# Altium schematic symbol library Other.SchLib: 28 symbols
Pins are listed as number, name and electrical type; pins without a type are passive.

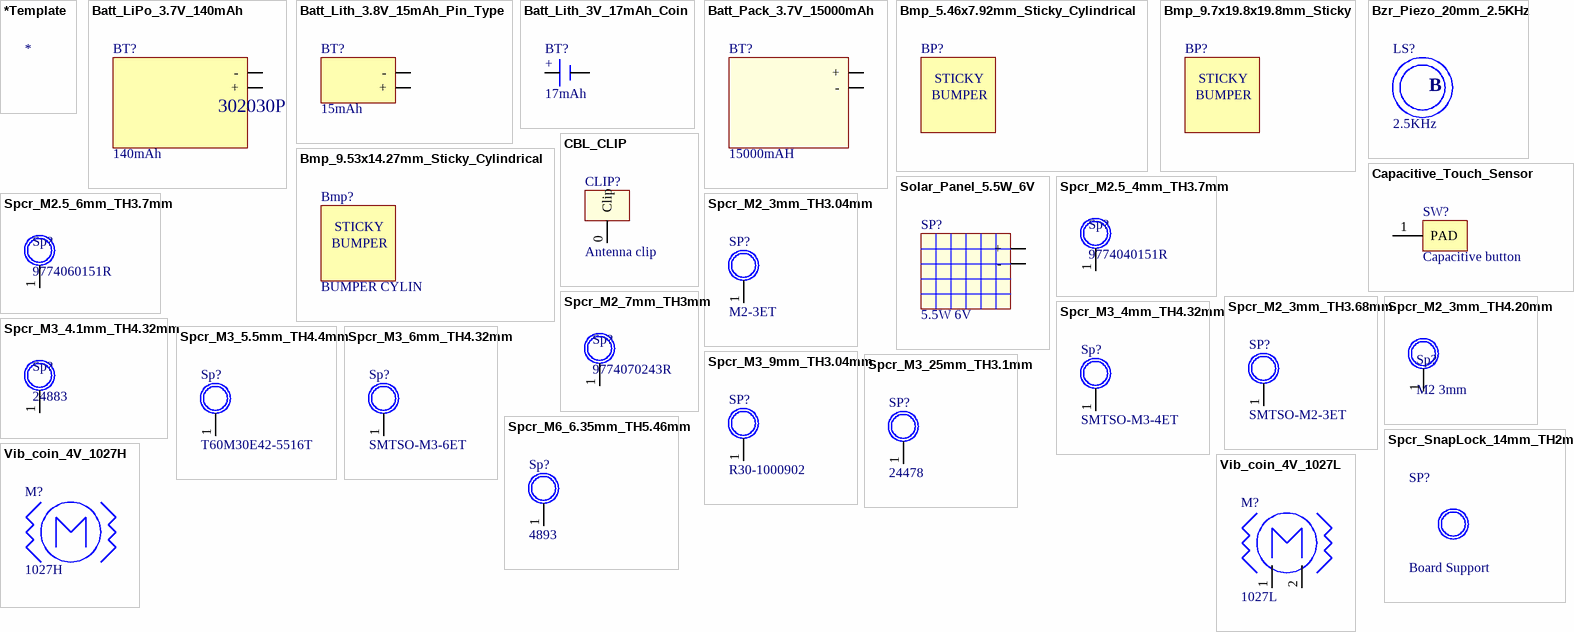
[diagram p0: symbols *Template to Vib_coin_4V_1027L]

## *Template
designator *
Reel Stock: N/A; Last modified by: J.Jaramillo; Last modified date: 20240310

## Batt_LiPo_3.7V_140mAh
designator BT?, comment 140mAh  (mechanical)
BATTERY LITHIUM 3.7V 140MAH; Manufacturer: Dongguan Miyea Electronic Co; Manufacturer Part Number: 302030P140; Supplier 1: Poshton; Supplier Part Number 1: 302030P140; Reel Stock: N/A; Last modified by: J.Jaramillo; Last modified date: 20240310
pins: 1 -, 2 +

## Batt_Lith_3.8V_15mAh_Pin_Type
designator BT?, comment 15mAh
PIN TYPE LITHIUM ION; Manufacturer: PANASONIC ELECTRONIC COMPONENTS; Manufacturer Part Number: CG-320A; Supplier 1: PANASONIC ELECTRONIC COMPONENTS; Supplier Part Number 1: CG-320A; Reel Stock: N/A; Last modified by: J.Jaramillo; Last modified date: 20240310; ComponentLink1Description: Panasonic Industrial; ComponentLink1URL: https://na.industrial.panasonic.com/products/batteries/rechargeable-batteries/lineup/pin-type-lithium-ion/series/90810/model/90811
footprint BAT_LITH_3.8V_CG-320A_PIN_TYPE (20220103 / A-F.Romo)
pins: 1 -, 2 +

## Batt_Lith_3V_17mAh_Coin
designator BT?, comment 17mAh
BATT LITH 3V 17MAH COIN 12.5MM; Manufacturer: Panasonic - BSG; Manufacturer Part Number: ML-1220/F1AN; Supplier 1: Digi-Key; Supplier Part Number 1: P295-ND; Reel Stock: N/A; Last modified by: J.Jaramillo; Last modified date: 20240310; ComponentLink1Description: Digi-Key; ComponentLink1URL: https://www.digikey.com/en/products/detail/panasonic-bsg/ML-1220-F1AN/447504?s=N4IgTCBcDaIApgJwFYC0A5AIiAugXyA
footprint BAT_LITH_3V_ML1220-F1A_COIN (/20200714/N-A.Potosi)
pins: 1 +, 2 -

## Batt_Pack_3.7V_15000mAh
designator BT?, comment 15000mAH  (mechanical)
BATTERY PACK 3.7V 15000mAH; Manufacturer: Samsung; Manufacturer Part Number: 21700-1S3P; Supplier 1: QueenBattery; Supplier Part Number 1: 21700-1S3P; Reel Stock: N/A; Last modified by: J.Jaramillo; Last modified date: 20240310; ComponentLink1Description: QueenBattery; ComponentLink1URL: http://queenbattery.com.cn/our-products/664-1s3p-samsung-21700-50e-37v-15ah-battery-pack-with-pcb-2a-5a-with-jst-connector.html
pins: 1 +, 2 -

## Bmp_5.46x7.92mm_Sticky_Cylindrical
designator BP?, comment BUMPER CYLINDRICAL  (value not drawn)
BUMPER CYLIN 0.312" DIA BLK; Manufacturer: 3M; Manufacturer Part Number: SJ61A6; Supplier 1: Digi-Key; Supplier Part Number 1: SJ61A6-ND; Reel Stock: N/A; Last modified by: J.Jaramillo; Last modified date: 20240310; ComponentLink1Description: Digi-Key; ComponentLink1URL: https://www.digikey.com/product-detail/en/3m/SJ61A6/SJ61A6-ND/1768454
footprint BMP_5.46x7.92mm_Sticky_Cylindrical (Adhesive, Rubber/ 20190301 / N-A.Potosi)
text: STICKY; BUMPER

## Bmp_9.7x19.8x19.8mm_Sticky
designator BP?, comment BUMPER SQUARE  (value not drawn)
BUMPER .78" SQUARE X .38" BLK; Manufacturer: Bumper Specialties Inc.; Manufacturer Part Number: BS04BL01X01AP; Supplier 1: Digi-Key; Supplier Part Number 1: 2042-1012-ND; Reel Stock: N/A; Last modified by: J.Jaramillo; Last modified date: 20240310; ComponentLink1Description: Digi-Key; ComponentLink1URL: https://www.digikey.com/product-detail/en/bumper-specialties-inc/BS04BL01X01AP/2042-1012-ND/9759791
footprint BMP_9.7x19.8x19.8mm_Sticky (Adhesive, Rubber / 20190301 / N-A.Potosi)
text: STICKY; BUMPER

## Bmp_9.53x14.27mm_Sticky_Cylindrical
designator Bmp?, comment BUMPER CYLIN
BUMPER CYLIN 0.562" DIA BLACK; Manufacturer: Keystone Electronics; Manufacturer Part Number: 727; Supplier 1: Digi-Key; Supplier Part Number 1: 36-727-ND; Reel Stock: N/A; Last modified by: J.Jaramillo; Last modified date: 20240310; ComponentLink1Description: Digi-Key; ComponentLink1URL: https://www.digikey.com/en/products/detail/keystone-electronics/727/61969
footprint BMP_9.53x14.27MM_STICKY_CYLINDRICAL (20221012 /  E.Naranjo)
text: STICKY; BUMPER

## Bzr_Piezo_20mm_2.5KHz
designator LS?, comment 2.5KHz  (mechanical)
PIEZO CERAMIC BENDER 20MM 2.5KHZ; Manufacturer: PUI Audio, Inc.; Manufacturer Part Number: AB2025B-LW100-R; Supplier 1: Digi-key; Supplier Part Number 1: 668-1403-ND; Reel Stock: N/A; Last modified by: J.Jaramillo; Last modified date: 20240310; ComponentLink1Description: Digi-Key; ComponentLink1URL: https://www.digikey.com/en/products/detail/pui-audio-inc/AB2025B-LW100-R/4147327?s=N4IgTCBcDaIGxwBwFoCMAWADAZmQOQBEQBdAXyA
text: B

## Capacitive_Touch_Sensor
designator SW?, comment Capacitive button
Capacitive touch sensor; Reel Stock: N/A; Last modified by: J.Jaramillo; Last modified date: 20240310
footprint CAPACITIVE-TOUCH-SENSOR (20220429 / E.Naranjo)
pins: 1 PAD

## CBL_CLIP
designator CLIP?, comment Antenna clip
CBL CLIP C-TYPE SILVER SOLDER; Manufacturer: Harwin Inc.; Manufacturer Part Number: S8101-46R; Supplier 1: Digi-Key; Supplier Part Number 1: 952-1576-1-ND; Reel Stock: N/A; Last modified by: J.Jaramillo; Last modified date: 20240310; ComponentLink1Description: Digi-Key; ComponentLink1URL: https://www.digikey.com/products/en?keywords=952-1576-1-ND
footprint Cbl_clip (/20200406/V-A.Patino)
pins: 0 Clip

## Solar_Panel_5.5W_6V
designator SP?, comment 5.5W 6V  (mechanical)
5.5 WATT 6 VOLT SOLAR PANEL - ET; Manufacturer: Voltaic Systems; Manufacturer Part Number: 5.5W-MB; Supplier 1: Voltaic; Supplier Part Number 1: 5.5W-MB; Reel Stock: N/A; Last modified by: J.Jaramillo; Last modified date: 20240310; ComponentLink1Description: Voltaic; ComponentLink1URL: https://voltaicsystems.com/5-5-watt-panel-etfe/
pins: 1 +, 2 -

## Spcr_M2.5_4mm_TH3.7mm
designator Sp?, comment 9774040151R
RND STANDOFF M2.5X0.45 STEEL 4MM; Manufacturer: Würth Elektronik; Manufacturer Part Number: 9774040151R; Supplier 1: Digi-Key; Supplier Part Number 1: 732-7089-1-ND; Reel Stock: N/A; Last modified by: J.Jaramillo; Last modified date: 20230220; ComponentLink1Description: Digi-Key; ComponentLink1URL: https://www.digikey.com/en/products/detail/würth-elektronik/9774040151R/5320632
footprint Spcr_M2.5_4mm_TH3.7mm (/20230220/N-A.Potosi)
pins: 1

## Spcr_M2.5_6mm_TH3.7mm
designator Sp?, comment 9774060151R
RND STANDOFF M2.5X0.45 STEEL 6MM; Manufacturer: Würth Elektronik; Manufacturer Part Number: 9774060151R; Supplier 1: Digi-Key; Supplier Part Number 1: 732-7102-1-ND; Reel Stock: N/A; Last modified by: J.Jaramillo; Last modified date: 20240310; ComponentLink1Description: Digi-Key; ComponentLink1URL: https://www.digikey.com/en/products/detail/würth-elektronik/9774060151R/5320645?s=N4IgTCBcDaIJwHYEBYAMA2VBGArFgSiALoC%2BQA
footprint Spcr_M2.5_6mm_TH3.7mm (/20230220/N-A.Potosi)
pins: 1

## Spcr_M2_3mm_TH3.04mm
designator SP?, comment M2-3ET
ROUND STANDOFF M2X0.4 STEEL 3MM; Manufacturer: Würth Elektronik; Manufacturer Part Number: 9774030243R; Supplier 1: Digikey; Supplier Part Number 1: 732-7085-1-ND; Reel Stock: N/A; Last modified by: J.Jaramillo; Last modified date: 20240310; ComponentLink1Description: Digikey; ComponentLink1URL: https://www.digikey.com/en/products/detail/w%C3%BCrth-elektronik/9774030243R/5320628
footprint Spcr_M2_3mm_TH3.04mm (/20210420/J-E.Pachon)
pins: 1

## Spcr_M2_3mm_TH3.68mm
designator SP?, comment SMTSO-M2-3ET
Mounting Hardware SURFACE MOUNT STANDOFF; Manufacturer: PEM; Manufacturer Part Number: SMTSO-M2-3ET; Supplier 1: Mouser; Supplier Part Number 1: 153-SMTSO-M2-3ET; Reel Stock: N/A; Last modified by: J.Jaramillo; Last modified date: 20240310; ComponentLink1Description: Digikey; ComponentLink1URL: https://co.mouser.com/ProductDetail/PEM/SMTSO-M2-3ET/?qs=%2Fha2pyFadugIHl%2FPnX1C5Zv6tJQACq7p5t%2Fkxi6z9cdrCkbMojATyA%3D%3D
footprint Spcr_M2_3mm_TH3.68mm (/20210224/J-E.Pachon)
pins: 1

## Spcr_M2_3mm_TH4.20mm
designator Sp?, comment M2 3mm
ROUND STANDOFF M2 STEEL 3MM; Manufacturer: U-Tek; Manufacturer Part Number: T56M20E41-3015TP; Supplier 1: U-Tek; Supplier Part Number 1: T56M20E41-3015TP; Reel Stock: N/A; Last modified by: J.Jaramillo; Last modified date: 20230628; ComponentLink1Description: Datasheet; ComponentLink1URL: https://drive.google.com/file/d/1P1sJFJL19SQJossIeZB3FxhpHWnL8kkU/view?usp=drive_link
footprint Spcr_M2_3mm_TH4.20mm (/20230707/J-A.Sepulveda)
pins: 1

## Spcr_M2_7mm_TH3mm
designator Sp?, comment 9774070243R
ROUND STANDOFF M2X0.4 STEEL 7MM; Manufacturer: Würth Elektronik; Manufacturer Part Number: 9774070243R; Supplier 1: Digi-Key; Supplier Part Number 1: 732-7107-1-ND; Reel Stock: N/A; Last modified by: J.Jaramillo; Last modified date: 20240310; ComponentLink1Description: Digi-Key; ComponentLink1URL: https://www.digikey.com/en/products/detail/w%C3%BCrth-elektronik/9774070243R/5320650?s=N4IgTCBcDaIJwHYEBYAMDVmQZgEogF0BfIA
footprint Spcr_M2_7mm_TH3mm (/20230707/J-A.Sepulveda)
pins: 1

## Spcr_M3_4.1mm_TH4.32mm
designator Sp?, comment 24883
SM STANDOFF ON T&R 4MM; Manufacturer: Keystone Electronics; Manufacturer Part Number: 24883; Supplier 1: Digi-Key; Supplier Part Number 1: 36-24883-1-ND; Reel Stock: N/A; Last modified by: J.Jaramillo; Last modified date: 20240310; ComponentLink1Description: Digi-Key; ComponentLink1URL: https://www.digikey.com/en/products/detail/keystone-electronics/24883/9921823
footprint Spcr_M3_4mm_TH4.32mm (/20220928/J. Jaramillo)
pins: 1

## Spcr_M3_4mm_TH4.32mm
designator Sp?, comment SMTSO-M3-4ET
Standoffs & Spacers SURFACE MOUNT STANDOFF, M3; Manufacturer: PEM; Manufacturer Part Number: SMTSO-M3-4ET; Supplier 1: Mouser; Supplier Part Number 1: 153-SMTSO-M3-4ET; Reel Stock: N/A; Last modified by: J.Jaramillo; Last modified date: 20240310; ComponentLink1Description: Mouser; ComponentLink1URL: https://www.mouser.com/ProductDetail/PEM/SMTSO-M3-4ET?qs=l4Gc20tDgJLNnHe5wl9jAA%3D%3D
footprint Spcr_M3_4mm_TH4.32mm (/20220928/J. Jaramillo)
pins: 1

## Spcr_M3_5.5mm_TH4.4mm
designator Sp?, comment T60M30E42-5516T
ROUND STANDOFF 6MM DIA; Manufacturer: U-TEK; Manufacturer Part Number: T60M30E42-5516T; Supplier 1: CHINTEK; Supplier Part Number 1: T60M30E42-5516T; Reel Stock: N/A; Last modified by: J.Jaramillo; Last modified date: 20240310; ComponentLink1Description: U-TEK; ComponentLink1URL: https://www.u-tek.com.tw/en/product-619501/SMT-Nut-and-Stand-Off.html
footprint Spcr_M3_5.5mm_TH4.4mm (/20220314/C-D Viveros)
pins: 1

## Spcr_M3_6mm_TH4.32mm
designator Sp?, comment SMTSO-M3-6ET
Standoffs & Spacers SURFACE MOUNT STANDOFF, M3; Manufacturer: PEM; Manufacturer Part Number: SMTSO-M3-6ET; Supplier 1: Mouser; Supplier Part Number 1: 153-SMTSO-M3-6ET; Reel Stock: N/A; Last modified by: J.Jaramillo; Last modified date: 20240310; ComponentLink1Description: Mouser; ComponentLink1URL: https://www.mouser.com/ProductDetail/PEM/SMTSO-M3-6ET?qs=%2Fha2pyFadugIHl%2FPnX1C5VD8zOjtR7QxeFqR8AwCrWB6yv9mPNEbGw%3D%3D
footprint Spcr_M3_6mm_TH4.32mm (/20201202/M-C.CALDERON)
pins: 1

## Spcr_M3_9mm_TH3.04mm
designator SP?, comment R30-1000902
HEX STANDOFF M3X0.5 BRASS 9MM; Manufacturer: Harwin Inc.; Manufacturer Part Number: R30-1000902; Supplier 1: Digi-Key; Supplier Part Number 1: 952-3010-ND; Reel Stock: N/A; Last modified by: J.Jaramillo; Last modified date: 20240310; ComponentLink1Description: Digi-Key; ComponentLink1URL: https://www.digikey.com/en/products/detail/harwin-inc/R30-1000902/3924445
footprint Spcr_M3_9mm_TH3.04mm (20210416/M-C.Calderon)
pins: 1

## Spcr_M3_25mm_TH3.1mm
designator SP?, comment 24478
HEX STANDOFF M3 SS 25MM; Manufacturer: Keystone Electronics; Manufacturer Part Number: 24478; Supplier 1: Digi-Key; Supplier Part Number 1: 36-24478-ND; Reel Stock: N/A; Last modified by: J.Jaramillo; Last modified date: 20240310; ComponentLink1Description: Digi-Key; ComponentLink1URL: https://www.digikey.com/en/products/detail/keystone-electronics/24478/1532965
footprint Spcr_M3_25mm_TH3.1mm (20210415/M-C.Calderon)
pins: 1

## Spcr_M6_6.35mm_TH5.46mm
designator Sp?, comment 4893
ROUND STANDOFF #6-32 STEEL 1/4"; Manufacturer: Keystone Electronics; Manufacturer Part Number: 4893; Supplier 1: Digi-Key; Supplier Part Number 1: 36-4893CT-ND; Reel Stock: N/A; Last modified by: J.Jaramillo; Last modified date: 20240310; ComponentLink1Description: Digi-Key; ComponentLink1URL: https://www.digikey.com/en/products/detail/keystone-electronics/4893/6234727
footprint Spcr_M6_6.35mm_TH5.46mm (/ 20210211 / C-D Viveros)
pins: 1

## Spcr_SnapLock_14mm_TH2mm
designator SP?, comment Board Support
MINIATURE SNAP-ON SPACER ARRESTI; Manufacturer: Würth Elektronik; Manufacturer Part Number: 709650000; Supplier 1: Digi-Key; Supplier Part Number 1: 732-12611-ND; Reel Stock: N/A; Last modified by: J.Jaramillo; Last modified date: 20240310; ComponentLink1Description: Digi-Key; ComponentLink1URL: https://www.digikey.com/en/products/detail/w%C3%BCrth-elektronik/709650000/9488315
footprint Spcr_SnapLock_14mm_TH2mm (20221220 / E.Naranjo)

## Vib_coin_4V_1027H
designator M?, comment 1027H  (mechanical)
VIBRATION MOTOR COIN 4V SPRING LOADED; Manufacturer: Shenzhen Yaodi Technology; Manufacturer Part Number: YDF1027H; Supplier 1: Poshton; Supplier Part Number 1: YDF1027H; Reel Stock: N/A; Last modified by: J.Jaramillo; Last modified date: 20240310

## Vib_coin_4V_1027L
designator M?, comment 1027L  (mechanical)
VIBRATION MOTOR COIN 4V WIRE; Manufacturer: Shenzhen Yaodi Technology; Manufacturer Part Number: YDF1027L; Supplier 1: Poshton; Supplier Part Number 1: YDF1027L; Reel Stock: N/A; Last modified by: J.Jaramillo; Last modified date: 20240310
pins: 1, 2